# Altium footprint library Cap.PcbLib: 4 footprints
Each footprint in its own frame and in the unit in brackets; x right, y up, seen from the top. Pads: shape width x height; smd on the part's side, far side on the other; paste and mask are expansions set on the pad; w line width, h text height; cw(c..) or ccw(c..) is an arc to the next point about the centre after c.
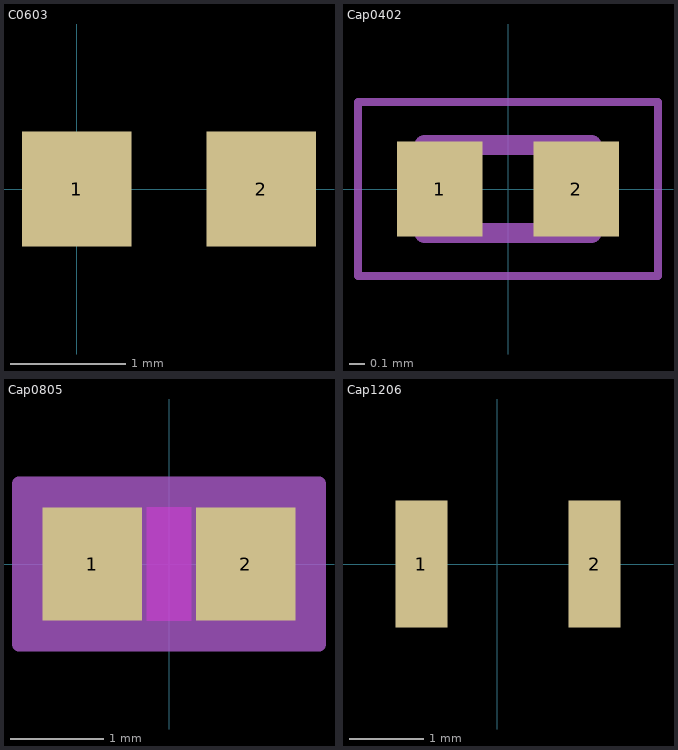
[diagram p0: the footprints below, top view; thin cyan lines are the x and y axes]

## C0603 [mm]
pads (2):
  rect 0.95x1 smd: 1(0,0) 2(1.6,0)
3D body "CAP_CL10_SAM.step": height 0.9, standoff 0, extent -0.025,-0.425 1.575,0.375

## Cap0402 [mm]
pads (2):
  rect 0.54x0.6 smd: 1(-0.432,0) 2(0.432,0)
Mechanical 13:
  lines w0.127: -0.53,-0.28 -0.53,0.28 0.53,0.28 0.53,-0.28 -0.53,-0.28
Mechanical 15:
  lines w0.05: -0.95,-0.55 -0.95,0.55 0.95,0.55 0.95,-0.55 -0.95,-0.55
3D body: height 0.35, standoff 0, extent -0.575,-0.25 -0.45,0.25
3D body: height 0.35, standoff 0, extent 0.45,-0.25 0.575,0.25
3D body: height 0.35, standoff 0, extent -0.45,-0.25 0.45,0.25

## Cap0805 [mil]
pads (2):
  rect 42x48 smd paste+0 mask+0: 1(-32.5,0) 2(32.5,0)
Top Layer keep-out:
  region: -9.5,-22 -9.5,22 9.5,22 9.5,-22
Keep-Out Layer:
  region: -9.5,-24 -9.5,24 9.5,24 9.5,-24
Mechanical 13:
  lines w1: -39.5,-24 -39.5,24 ; -39.5,-24 -11.5,-24 -11.5,24 -39.5,24 ; -39.5,-24 39.5,-24 ; -39.5,-24 -39.5,24 ; -39.5,24 39.5,24 ; 39.5,-24 11.5,-24 11.5,24 39.5,24 ; 39.5,-24 39.5,24 ; 39.5,-24 39.5,24
Mechanical 15:
  region: 63.5,-34 -63.5,-34 -63.5,34 63.5,34
  lines w6: -63.5,-34 -63.5,34 63.5,34 63.5,-34 -63.5,-34
3D body "CC0805N_YAG.step": height 27.99, standoff 0, extent -39.49,-24.02 39.49,24.02

## Cap1206 [mm]
pads (2):
  rect 0.7x1.7 smd: 1(-1.016,0) 2(1.3,0)
3D body: height 0.69, standoff 0, extent -1.206,-0.889 -0.826,0.889
3D body: height 0.69, standoff 0, extent 1.016,-0.889 1.397,0.889
3D body: height 0.69, standoff 0, extent -0.889,-0.9 1.016,0.9
3D body: height 26.29, standoff -7.62, extent -1.581,0.889 -1.581,0.889